# Altium schematic symbol library Schlib1.SchLib: 33 symbols
Pins are listed as number, name and electrical type; pins without a type are passive.

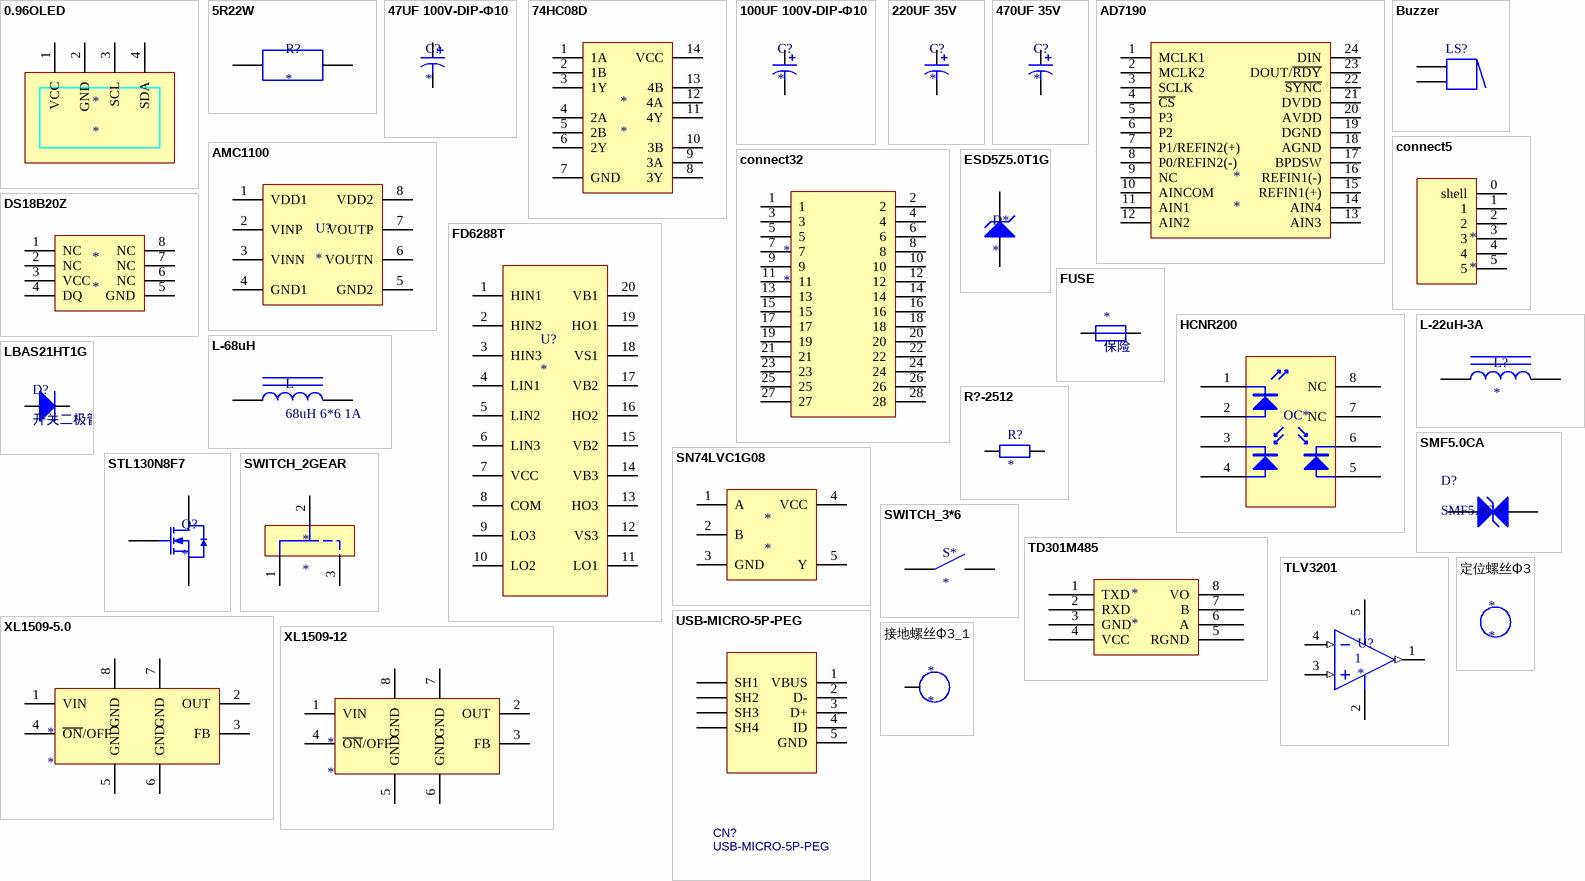
[diagram p0: symbols 0.96OLED to 接地螺丝Φ3_1]

## 0.96OLED
designator *
footprint 0.96OLED
pins: 1 VCC, 2 GND, 3 SCL, 4 SDA

## 5R22W
designator R?
水泥电阻
footprint 水泥电阻5w22R
pins: 1 NC, 2 NC

## 47UF 100V-DIP-Φ10
designator C?
footprint Φ10-5.0
pins: 1, 2

## 74HC08D
designator *
4路与门 ssop14 / soic14
footprint SSOP14
footprint SOIC14
pins: 1 1A, 2 1B, 3 1Y, 4 2A, 5 2B, 6 2Y, 7 GND, 8 3Y, 9 3A, 10 3B, 11 4Y, 12 4A, 13 4B, 14 VCC

## 100UF 100V-DIP-Φ10
designator C?
footprint CAP-Φ10-5.0
footprint CAP-Φ10-5.0-LAY
footprint CAP-Φ10-5.0-LAY-mirror
pins: 1, 2

## 220UF 35V
designator C?
footprint CAP 8*10.5 SMD (贴片铝电解电容)
pins: 1, 2

## 470UF 35V
designator C?
footprint CAP_D10F5
footprint CAP 10*10.5 SMD
pins: 1, 2

## AD7190
designator *
Σ - Δ 转换器
footprint AD7190
pins: 1 MCLK1, 2 MCLK2, 3 SCLK, 4 ~{CS}, 5 P3, 6 P2, 7 P1/REFIN2(+), 8 P0/REFIN2(-), 9 NC, 10 AINCOM, 11 AIN1, 12 AIN2, 13 AIN3, 14 AIN4, 15 REFIN1(+), 16 REFIN1(-), 17 BPDSW, 18 AGND, 19 DGND, 20 AVDD, 21 DVDD, 22 ~{SYNC}, 23 DOUT/~{RDY}, 24 DIN

## AMC1100
designator U?
隔离差分放大器（固定5倍）
footprint SOP8
pins: 1 VDD1, 2 VINP, 3 VINN, 4 GND1, 5 GND2, 6 VOUTN, 7 VOUTP, 8 VDD2

## Buzzer
designator LS?
Magnetic Transducer Buzzer; Published: 24-Mar-1999; LatestRevisionDate: 17-Dec-2003; LatestRevisionNote: Schematic revised, PCB Footprint replaced.; DatasheetVersion: 17-Dec-2003; PackageReference: ABSM-1574; Publisher: Altium Limited; PackageDescription: Magnetic Transducer Buzzer; ComponentLink1Description: Manufacturer Link; ComponentLink1URL: http://www.megastar.com/linecard/buzzmode/index.php
footprint BUZZER (D12P7.6)
pins: 1, 1, 2, 2A
1 alternate drawing of the same symbol

## connect5
designator *
连接器
footprint HY2.0_5P-SOP
footprint KF2EDGR-3.81-5P
footprint KF2EDGR-2.54_5P
pins: 0 shell, 1, 2, 3, 4, 5

## connect32
designator *
连接器
footprint HDR2X14 (Connector; Header; 14x2 Position)
pins: 1, 2, 3, 4, 5, 6, 7, 8, 9, 10, 11, 12, 13, 14, 15, 16, 17, 18, 19, 20, 21, 22, 23, 24, 25, 26, 27, 28

## DS18B20Z
designator *
footprint SOP8
pins: 1 NC, 2 NC, 3 VCC, 4 DQ, 5 GND, 6 NC, 7 NC, 8 NC

## ESD5Z5.0T1G
designator D*
footprint SOD-523
pins: 1 K, 2 K

## FD6288T
designator U?
栅极驱动芯片
footprint TSSOP-20L
pins: 1 HIN1, 2 HIN2, 3 HIN3, 4 LIN1, 5 LIN2, 6 LIN3, 7 VCC, 8 COM, 9 LO3, 10 LO2, 11 LO1, 12 VS3, 13 HO3, 14 VB3, 15 VB2, 16 HO2, 17 VB2, 18 VS1, 19 HO1, 20 VB1

## FUSE
designator *, comment 保险
自恢复保险
footprint R1812
pins: 1 VB2, 2 VB3

## HCNR200
designator OC*
线性光耦
footprint HCNR200
pins: 1, 2, 3, 4, 5, 6, 7 NC, 8 NC

## L-22uH-3A
designator L?
6.6*7.1  3A
footprint 22uH-6.6*7.1
pins: 1, 2

## L-68uH
designator L, comment 68uH 6*6 1A
footprint 68uH (6*6 1A)
pins: 1, 2

## LBAS21HT1G
designator D?, comment 开关二极管
开关二极管 反向耐压250V
footprint SOD323
pins: 1 A, 2 K

## R?-2512
designator R?
RES 2512
footprint RES 2512
pins: 1, 2

## SMF5.0CA
designator D?
TVS; ComponentLink1Description: 供应商链接; ComponentLink1URL: http://www.szlcsc.com/product/details_79530.html; Package: SMB/DO-214AA; Supplier: LC; SuppliersPartNumber: C78395
footprint SOD-123FL
pins: 1 A, 2 K

## SN74LVC1G08
designator *
单路与门输入
footprint SOT23-5 (SOT23, 5-Leads, Body 3.0x3.0mm (max), Pitch 0.95mm, IPC Medium Density)
pins: 1 A, 2 B, 3 GND, 4 VCC, 5 Y

## STL130N8F7
designator Q?
80V 120A NMOS
footprint STL130N8F7
pins: 1 S, 4 G, 5 D

## SWITCH_2GEAR
designator *
footprint SWITCH_2GEAR
pins: 1, 2, 3

## SWITCH_3*6
designator S*
footprint Switch_3*6 (微动3*6)
pins: 1, 2

## TD301M485
designator *
485转换模块
footprint DIP8
pins: 1 TXD, 2 RXD, 3 GND, 4 VCC, 5 RGND, 6 A, 7 B, 8 VO

## TLV3201
designator U?
电压比较器
footprint SOT23-5
pins: 1 OUT (out), 2 V- (power), 3 IN+ (in), 4 IN- (in), 5 V+ (power)

## USB-MICRO-5P-PEG
designator CN?
MICROUSB接口-5P; BOM_Manufacturer: ValuePro; BOM_Manufacturer Part: USB-MINI-5P-PEG; BOM_Supplier: LCSC; BOM_Supplier Part: C69074; BOM_JLCPCB Part Class: Extended Part; spicePre: C; spiceSymbolName: USB-MINI-5P-PEG
footprint USB-MICRO-5P
pins: 1 VBUS, 2 D-, 3 D+, 4 ID, 5 GND, SH1, SH2, SH3, SH4

## XL1509-5.0
designator *
电源芯片
footprint SOP8
pins: 1 VIN, 2 OUT, 3 FB, 4 ~{ON}/OFF, 5 GND, 6 GND, 7 GND, 8 GND

## XL1509-12
designator *
电源芯片
footprint SOP8
pins: 1 VIN, 2 OUT, 3 FB, 4 ~{ON}/OFF, 5 GND, 6 GND, 7 GND, 8 GND

## 定位螺丝Φ3
designator *
footprint 定位螺丝Φ3

## 接地螺丝Φ3_1
designator *
footprint 接地螺丝Φ3
pins: 0 VB4